# EAGLE library part IMU-MPU (library mohamed-eagle)
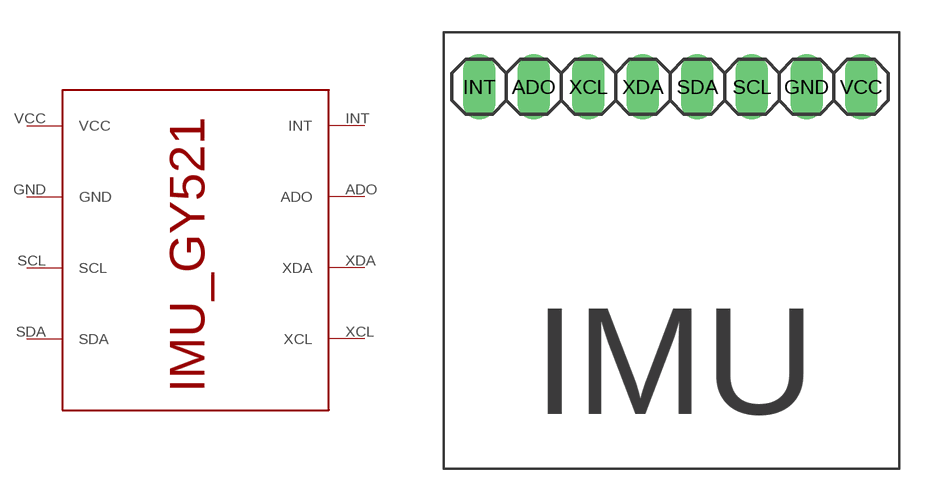
[diagram p2: symbol with the pads of IMU_GY521; footprint IMU_GY521]

Designator prefix -

## IMU-MPU  [IMU_GY521]
ADO  ADO
GND  GND
INT  INT
SCL  SCL
SDA  SDA
VCC  VCC
XCL  XCL
XDA  XDA

## Footprint IMU_GY521 (pad centres in mm)
PIN HEADER
drill 1.016 long: ADO -6.35,0; GND 6.35,0; INT -8.89,0; SCL 3.81,0; SDA 1.27,0; VCC 8.89,0; XCL -3.81,0; XDA -1.27,0